# Altium schematic symbol library Radiator_122X80_M4.SchLib: 1 symbol
Pins are listed as number, name and electrical type; pins without a type are passive.

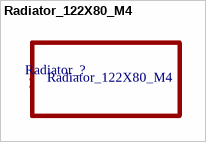
[diagram p0: symbol Radiator_122X80_M4]

## Radiator_122X80_M4
designator Radiator_?
footprint Radiator_122X80_M4